# EAGLE library part MS5611 (library aspirin)
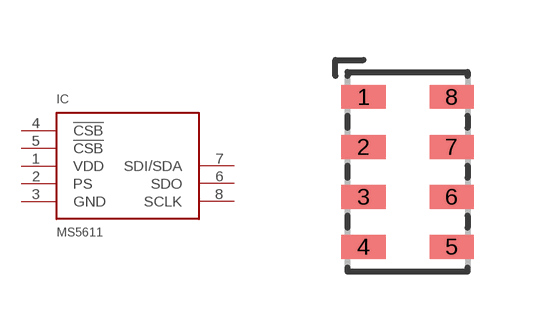
[diagram p8: symbol with the pads of QFN-MS5611; footprint QFN-MS5611]

Designator prefix IC

## MS5611  [QFN-MS5611]
1  VDD
2  PS
3  GND
4  !CSB
5  !CSB
6  SDO
7  SDI/SDA
8  SCLK

## Footprint QFN-MS5611 (pad centres in mm)
smd 1.1 x 0.6: 1 -1.1,1.875; 2 -1.1,0.625; 3 -1.1,-0.625; 4 -1.1,-1.875; 5 1.1,-1.875; 6 1.1,-0.625; 7 1.1,0.625; 8 1.1,1.875